# Altium footprint library pth-transformer.PcbLib: 3 footprints
Each footprint in its own frame and in the unit in brackets; x right, y up, seen from the top. Pads: shape width x height; smd on the part's side, far side on the other; paste and mask are expansions set on the pad; w line width, h text height; cw(c..) or ccw(c..) is an arc to the next point about the centre after c.
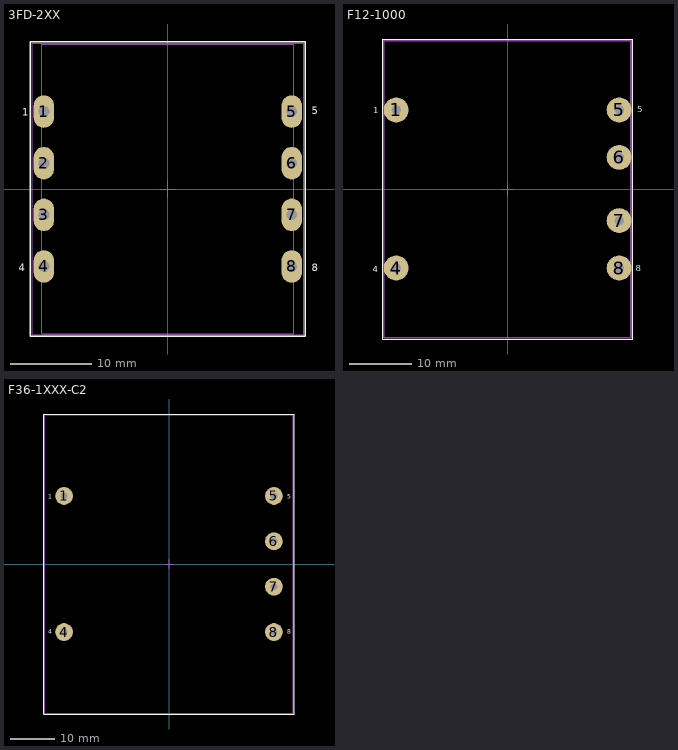
[diagram p0: the footprints below, top view; thin cyan lines are the x and y axes]

## 3FD-2XX [mm] "1.1VA Power Transformer"
height 25.4
pads (8):
  oval 2.5x4 hole 1.321: 1(-15.24,9.525) 2(-15.24,3.175) 3(-15.24,-3.175) 4(-15.24,-9.525) 5(15.24,9.525) 6(15.24,3.175) 7(15.24,-3.175) 8(15.24,-9.525)
Top Overlay:
  lines w0.2: -16.9,-18.1 16.9,-18.1 16.9,18.1 -16.9,18.1 -16.9,-18.1
  text "8" at 17.7,-10.1 h0.89
  text "5" at 17.7,9.2 h0.89
  text "4" at -18.3,-10.1 h0.89
  text "1" at -17.9,9 h0.89
Mechanical 13:
  lines w0.1: -1,0 1,0 ; 0,-1 0,1 ; -16.7,-17.9 -16.7,17.9 16.7,17.9 16.7,-17.9 -16.7,-17.9
Mechanical 15:
  lines w0.1: -15.5,-17.8 15.5,-17.8 15.5,17.8 -15.5,17.8 -15.5,-17.8
  text ".Designator" at -2.3,-1.7 h0.5
3D body "Triad Magnetics-FS10-110-C2.STEP": height 24.7, standoff -5.04, extent -15.494,-17.488 15.494,17.463

## F12-1000 [mm] "20VA Power Transformer"
height 36
pads (6):
  round 4 hole 1.524: 1(-17.91,12.7) 4(-17.91,-12.7) 5(17.91,12.7) 6(17.91,5.08) 7(17.91,-5.08) 8(17.91,-12.7)
Top Overlay:
  lines w0.2: -20.1,-24.1 -20.1,24.1 20.1,24.1 20.1,-24.1 -20.1,-24.1
  text "1" at -21.6,12.2 h1
  text "4" at -21.7,-13.4 h1
  text "5" at 20.8,12.3 h1
  text "8" at 20.6,-13.2 h1
Mechanical 13:
  lines w0.1: -1,0 1,0 ; 0,-1 0,1 ; -19.8,-23.8 19.8,-23.8 19.8,23.8 -19.8,23.8 -19.8,-23.8
Mechanical 15:
  lines w0.1: -19.9,-23.9 -19.9,23.9 19.9,23.9 19.9,-23.9 -19.9,-23.9
  text ".Designator" at -2.3,-1.7 h0.8
3D body "Triad Magnetics-F12-1000.STEP": height 38.18, standoff -4.27, extent -19.837,-23.825 19.837,23.825

## F36-1XXX-C2 [mm] "36VA Power Transformer"
height 39.7
pads (6):
  round 4 hole 1.524: 1(-23.495,15.24) 4(-23.495,-15.24) 5(23.495,15.24) 6(23.495,5.08) 7(23.495,-5.08) 8(23.495,-15.24)
Top Overlay:
  lines w0.2: -28,-33.6 28,-33.6 28,33.6 -28,33.6 -28,-33.6
  text "8" at 26.5,-15.6 h1
  text "5" at 26.5,14.6 h1
  text "4" at -27,-15.6 h1
  text "1" at -27,14.6 h1
Mechanical 13:
  lines w0.1: -1,0 1,0 ; 0,-1 0,1 ; -27.8,-33.4 -27.8,33.4 27.8,33.4 27.8,-33.4 -27.8,-33.4
Mechanical 15:
  lines w0.1: -27.9,-33.5 27.9,-33.5 27.9,33.5 -27.9,33.5 -27.9,-33.5
  text ".Designator" at -2.3,-1.7 h0.8
3D body "Triad Magnetics-F36-1000-C2.STEP": height 39.67, standoff -5.95, extent -27.775,-33.35 27.775,33.35